# Altium integrated library ngv-ext.IntLib: 2 symbols
Pins are listed as number, name and electrical type; pins without a type are passive.

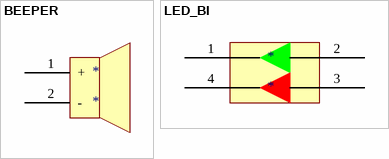
[diagram p0: symbols BEEPER to LED_BI]

## BEEPER
designator *
footprint BEEPER
pins: 1 +, 2 -

## LED_BI
designator *
footprint LED_BI
pins: 1, 2, 3, 4